# EAGLE library part 555 (library #PaJa_30)
IO - Casovac 555
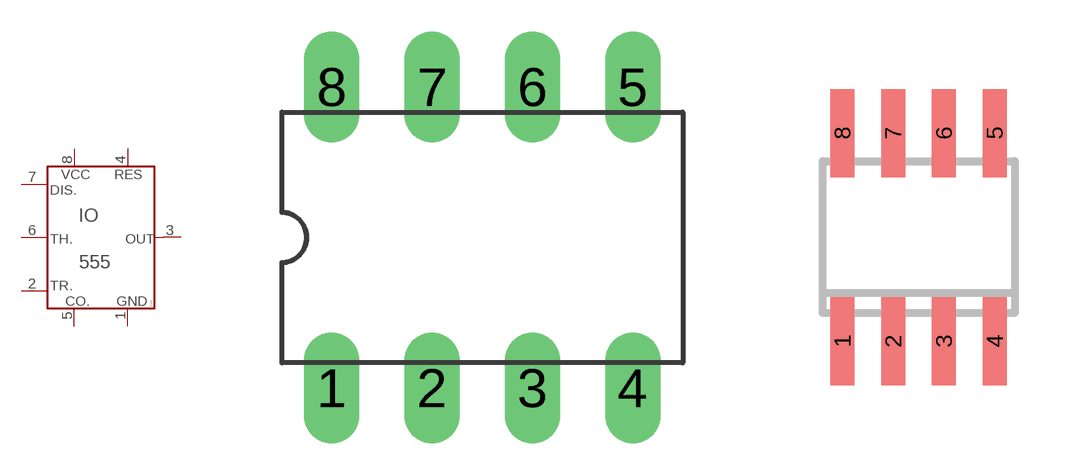
[diagram p1: symbol with the pads of DIL8; footprints DIL8, SO08]

Designator prefix IO

## 555  [DIL8]
1  GND  pwr
2  TR.  in
3  OUT  out
4  RES  in
5  CO.  in
6  TH.  in
7  DIS.  in
8  VCC  pwr

## 555_SO8  [SO08]
Pads as for DIL8

## Footprint DIL8 (pad centres in mm)
drill 0.813 pad 1.4 long: 1 -3.81,-3.81; 2 -1.27,-3.81; 3 1.27,-3.81; 4 3.81,-3.81; 5 3.81,3.81; 6 1.27,3.81; 7 -1.27,3.81; 8 -3.81,3.81

## Footprint SO08 (pad centres in mm)
smd 0.6 x 2.2: 1 -1.905,-2.6; 2 -0.635,-2.6; 3 0.635,-2.6; 4 1.905,-2.6; 5 1.905,2.6; 6 0.635,2.6; 7 -0.635,2.6; 8 -1.905,2.6